# Altium footprint library PCB_PassiveRes.PcbLib: 6 footprints
Each footprint in its own frame and in the unit in brackets; x right, y up, seen from the top. Pads: shape width x height; smd on the part's side, far side on the other; paste and mask are expansions set on the pad; w line width, h text height; cw(c..) or ccw(c..) is an arc to the next point about the centre after c.
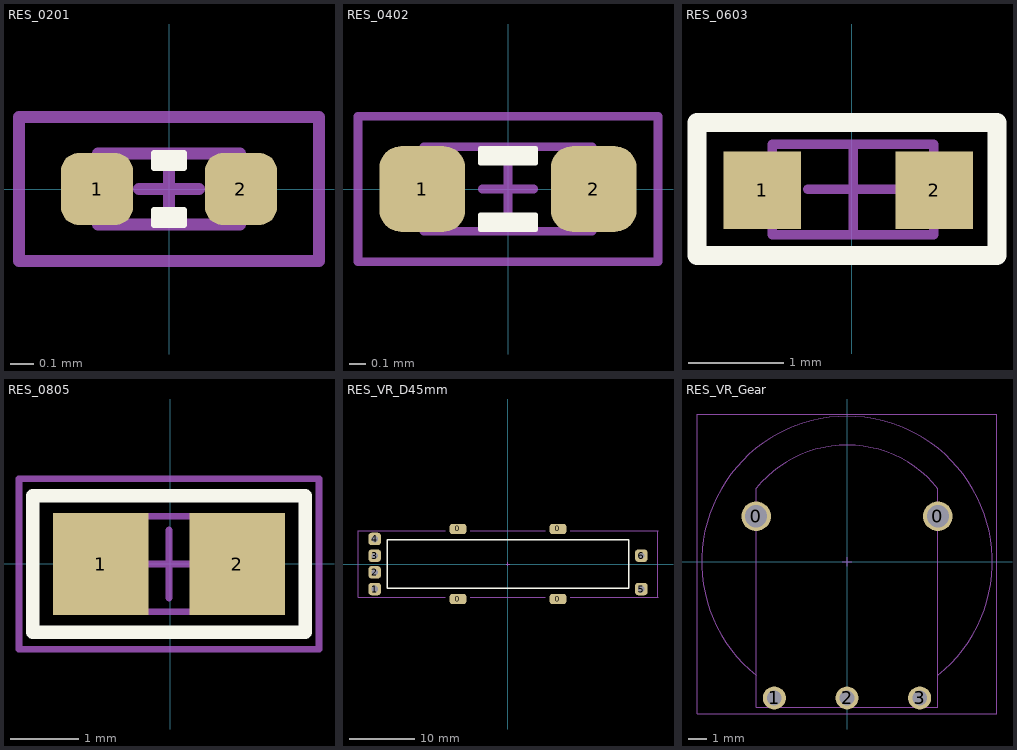
[diagram p0: the footprints below, top view; thin cyan lines are the x and y axes]

## RES_0201 [mil]
height 9.06
pads (2):
  rrect50% 12x12 smd: 1(-12,0) 2(12,0)
Top Overlay:
  region: 2.5,-6 -2.5,-6 -2.5,-3.5 2.5,-3.5
  region: -2.5,6 2.5,6 2.5,3.5 -2.5,3.5
  lines w1: -2.5,-6 2.5,-6 2.5,-3.5 -2.5,-3.5 -2.5,-6 ; -2.5,3.5 -2.5,6 2.5,6 2.5,3.5 -2.5,3.5
Mechanical 13:
  lines w2: -5,0 5,0 ; 0,-5 0,5 ; -11.81,-5.91 11.81,-5.91 11.81,5.91 -11.81,5.91 -11.81,-5.91
T-Component:
  lines w2: -25,-12 25,-12 25,12 -25,12 -25,-12
3D body "RESC0603X02L.step": height 9.06, standoff 0, extent -11.81,-5.9 11.81,5.91

## RES_0402 [mil]
height 13.78
pads (2):
  rrect50% 20x20 smd: 1(-20,0) 2(20,0)
Top Overlay:
  region: -6.5,9.5 6.5,9.5 6.5,6 -6.5,6
  region: 6.5,-9.5 -6.5,-9.5 -6.5,-6 6.5,-6
  lines w1: -6.5,-9.5 -6.5,-6 6.5,-6 6.5,-9.5 -6.5,-9.5 ; -6.5,6 6.5,6 6.5,9.5 -6.5,9.5 -6.5,6
Mechanical 13:
  lines w2: -6,0 6,0 ; 0,-6 0,6 ; -19.69,-9.84 19.68,-9.84 19.68,9.84 -19.69,9.84 -19.69,-9.84
T-Component:
  lines w2: -35,-17 -35,17 35,17 35,-17 -35,-17
3D body "RESC1005X03L.step": height 13.78, standoff 0, extent -19.68,-9.84 19.69,9.85

## RES_0603 [mil]
height 17.72
pads (2):
  rect 32x32 smd: 1(-37,-82) 2(34,-82)
Top Overlay:
  lines w7.87: -64,-109 -64,-54 60,-54 60,-109 -64,-109
Mechanical 13:
  lines w3.94: -32.98,-100.32 -32.98,-62.92 33.95,-62.92 33.95,-100.32 -32.98,-100.32
B-Component:
  lines w3.94: -18.21,-81.62 19.19,-81.62 ; 0.49,-100.32 0.49,-62.92
3D body "RESC1608X05L.step": height 17.72, standoff 0, extent -31.49,-97.74 31.5,-66.25

## RES_0805 [mm]
height 0.6
pads (2):
  rect 1.4x1.5 smd: 1(-1.018,-0.006) 2(0.982,-0.006)
Top Overlay:
  lines w0.2: -2.018,-1.006 1.982,-1.006 1.982,0.994 -2.018,0.994 -2.018,-1.006
Mechanical 13:
  lines w0.1: -1.093,-0.706 1.057,-0.706 1.057,0.694 -1.093,0.694 -1.093,-0.706
B-Component:
  lines w0.1: -0.518,-0.006 0.482,-0.006 ; -0.018,-0.506 -0.018,0.494 ; -2.218,-1.256 2.182,-1.256 2.182,1.244 -2.218,1.244 -2.218,-1.256
3D body "RESC2012X06L.step": height 0.6, standoff 0, extent -1.102,-0.635 0.898,0.615

## RES_VR_D45mm [mil]
pads (10):
  rrect50% 100x60 smd: 0(-300,-210) 0(-300,210) 0(300,-210) 0(300,210)
  rrect50% 75x75 hole 39.37: 1(-800,-150) 2(-800,-50) 3(-800,50) 4(-800,150) 5(800,-150) 6(800,50)
Top Overlay:
  lines w10: -725,-145 725,-145 725,145 -725,145 -725,-145
Mechanical 13:
  lines w2: -10,0 10,0 ; 0,-10 0,10
  lines w4: -375,-200 -900,-200 -900,200 -375,200 ; -225,-200 225,-200 ; -225,200 225,200 ; 375,-200 900,-200 900,200 375,200

## RES_VR_Gear [mil]
height 27.56
pads (5):
  round 64 hole 48: 0(-196.85,98.43) 0(196.85,98.43)
  round 50 hole 32: 1(-157.48,-295.28) 2(0,-295.28) 3(157.48,-295.28)
Mechanical 13:
  lines w2: -196.88,-245.85 cw(c0,0) 196.88,-245.85 ; -196.85,158.78 -196.85,-315 196.85,-315 196.85,158.1 ; -196.68,158.64 cw(c0,0) 197.01,158.23 ; -10,0 10,0 ; 0,-10 0,10
T-Component:
  lines w2: -325,-330 325,-330 325,320 -325,320 -325,-330